# Altium integrated library Microchip PIC16 Part 1.IntLib: 1800 symbols (part 72 of 93)
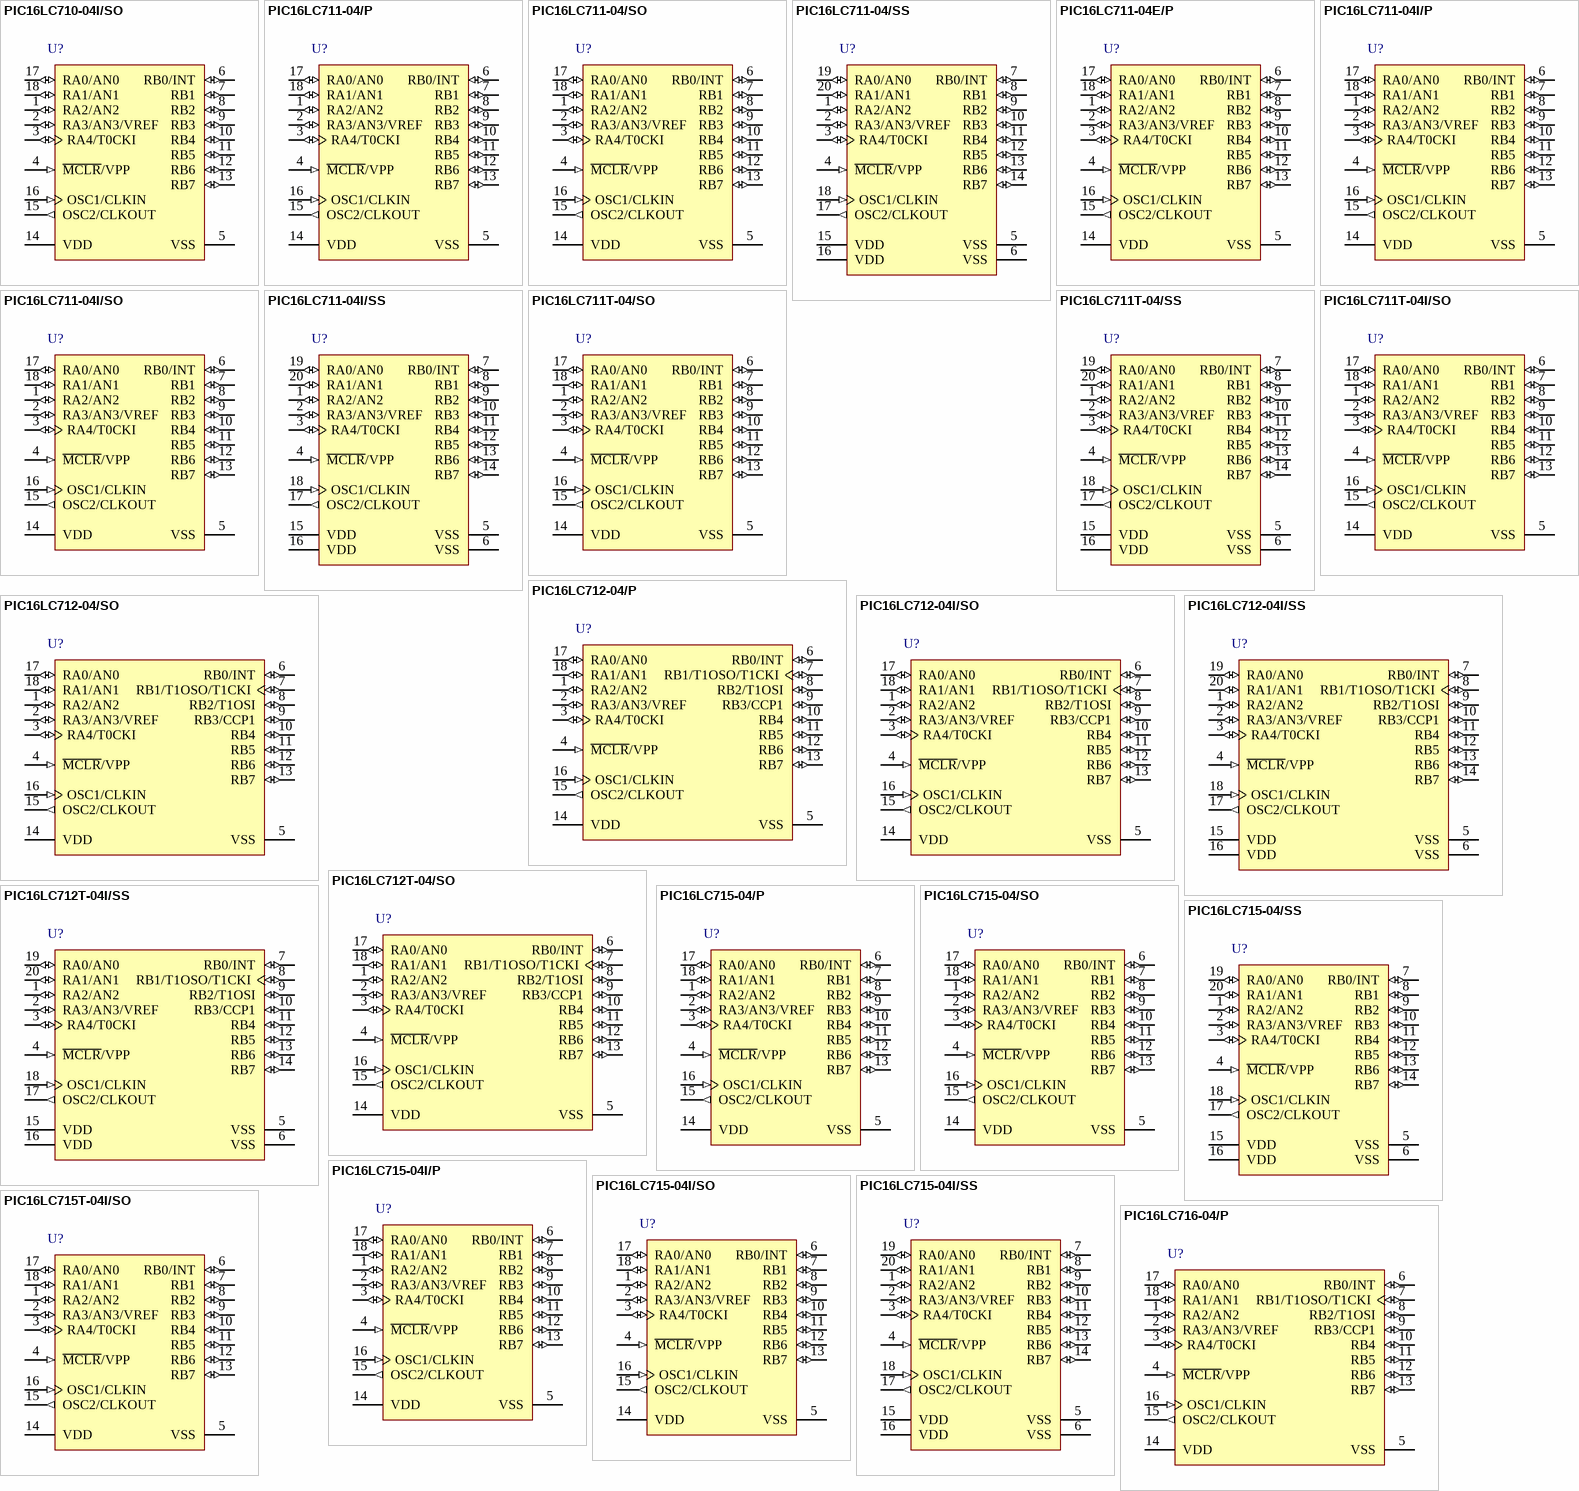
[diagram p170: symbols PIC16LC710-04I/SO to PIC16LC716-04/P]

## PIC16LC715-04I/SS
designator U?
8-Bit CMOS Microcontroller with A/D Converter, 4 MHz, 13 I/O, -40 to 85 degC, 20-pin SSOP (SS20), Tube; Manufacturer: Microchip; PartNumber: PIC16LC715-04I/SS; # of A/D Channels: 4; Digital Communication: 0 -UART, 0 -A/E/USART, 0 -SPI, 0 -I2C; I/O Pins: 13; Memory Type: OTP; Operation Voltage Range: 2.5V - 5.5V; Program Memory KBytes: 3.5; Program Memory KWords: 2; RAM: 128; Timers: 1 - 8-bit; DatasheetVersion: Rev. A; PackageVersion: C04-072B, 12/2012; PackageReference: SSOP-SS20; PackageDescription: 20-Lead Plastic Shrink Small Outline, 5.3 x 7.2 mm Body, 0.65 mm Pitch; Supplier 1: Digi-Key; Supplier Part Number 1: PIC16LC715-04I/SS-ND; Supplier 2: Mouser; Supplier Part Number 2: 579-16LC715-04I/SS; Max. CPU Speed MHz: 4; Packing: TUBE; Mounting Technology: Surface Mount; ComponentLink1Description: Datasheet; ComponentLink1URL: http://ww1.microchip.com/downloads/en/DeviceDoc/30272a.pdf; ComponentLink2Description: Package Specification; ComponentLink2URL: http://www.microchip.com/stellent/groups/techpub_sg/documents/packagingspec/en012702.pdf; ComponentLink3Description: URL Link1; ComponentLink3URL: Product URL:http://www.microchip.com/datasheet/PIC16C715
footprint MCHP-SSOP-SS20_N (SOP, 20-Leads, Body 7.2x5.3mm, Pitch 0.65mm, IPC Medium Density)
footprint MCHP-SSOP-SS20_L (SOP, 20-Leads, Body 7.2x5.3mm, Pitch 0.65mm, IPC High Density)
footprint MCHP-SSOP-SS20_M (SOP, 20-Leads, Body 7.2x5.3mm, Pitch 0.65mm, IPC Low Density)
pins: 1 RA2/AN2 (io), 2 RA3/AN3/VREF (io), 3 RA4/T0CKI (io), 4 ~{MCLR}/VPP (in), 5 VSS (power) "Ground reference for logic and I/O pins.", 6 VSS (power) "Ground reference for logic and I/O pins.", 7 RB0/INT (io), 8 RB1 (io) "PORTB is a bi-directional I/O port. PORTB can be software programmed for internal weak pull-up on all inputs.", 9 RB2 (io) "PORTB is a bi-directional I/O port. PORTB can be software programmed for internal weak pull-up on all inputs.", 10 RB3 (io) "PORTB is a bi-directional I/O port. PORTB can be software programmed for internal weak pull-up on all inputs.", 11 RB4 (io) "PORTB is a bi-directional I/O port. PORTB can be software programmed for internal weak pull-up on all inputs. Interrupt-on-change pin.", 12 RB5 (io) "PORTB is a bi-directional I/O port. PORTB can be software programmed for internal weak pull-up on all inputs. Interrupt-on-change pin.", 13 RB6 (io) "PORTB is a bi-directional I/O port. PORTB can be software programmed for internal weak pull-up on all inputs. Interrupt-on-change pin. Serial programming clock", 14 RB7 (io) "PORTB is a bi-directional I/O port. PORTB can be software programmed for internal weak pull-up on all inputs. Interrupt-on-change pin. Serial programming data", 15 VDD (power) "Positive supply for logic and I/O pins", 16 VDD (power) "Positive supply for logic and I/O pins", 17 OSC2/CLKOUT (out), 18 OSC1/CLKIN (in), 19 RA0/AN0 (io), 20 RA1/AN1 (io)

## PIC16LC715T-04I/SO
designator U?
8-Bit CMOS Microcontroller with A/D Converter, 4 MHz, 13 I/O, -40 to 85 degC, 18-pin SOIC (SO18), Tape and Reel; Manufacturer: Microchip; PartNumber: PIC16LC715T-04I/SO; # of A/D Channels: 4; Digital Communication: 0 -UART, 0 -A/E/USART, 0 -SPI, 0 -I2C; I/O Pins: 13; Memory Type: OTP; Operation Voltage Range: 2.5V - 5.5V; Packing: T/R; Program Memory KBytes: 3.5; Program Memory KWords: 2; RAM: 128; Timers: 1 - 8-bit; DatasheetVersion: Rev. A; PackageVersion: C04-051C, 12/2012; PackageReference: SOIC-SO18; PackageDescription: 18-Lead Plastic Small Outline, 7.5 x 11.55 mm Body, 1.27 mm Pitch; Supplier 1: Digi-Key; Supplier Part Number 1: PIC16LC715T-04ISO-ND; Supplier 2: Mouser; Supplier Part Number 2: 579-16LC715T-04I/SO; Max. CPU Speed MHz: 4; Mounting Technology: Surface Mount; ComponentLink1Description: Datasheet; ComponentLink1URL: http://ww1.microchip.com/downloads/en/DeviceDoc/30272a.pdf; ComponentLink2Description: Package Specification; ComponentLink2URL: http://www.microchip.com/stellent/groups/techpub_sg/documents/packagingspec/en012702.pdf; ComponentLink3Description: URL Link1; ComponentLink3URL: Product URL:http://www.microchip.com/datasheet/PIC16C715
footprint MCHP-SOIC-SO18_N (SOIC, 18-Leads, Body 11.55x7.5mm, Pitch 1.27mm, IPC Medium Density)
footprint MCHP-SOIC-SO18_L (SOIC, 18-Leads, Body 11.55x7.5mm, Pitch 1.27mm, IPC High Density)
footprint MCHP-SOIC-SO18_M (SOIC, 18-Leads, Body 11.55x7.5mm, Pitch 1.27mm, IPC Low Density)
pins: 1 RA2/AN2 (io), 2 RA3/AN3/VREF (io), 3 RA4/T0CKI (io), 4 ~{MCLR}/VPP (in), 5 VSS (power) "Ground reference for logic and I/O pins.", 6 RB0/INT (io), 7 RB1 (io) "PORTB is a bi-directional I/O port. PORTB can be software programmed for internal weak pull-up on all inputs.", 8 RB2 (io) "PORTB is a bi-directional I/O port. PORTB can be software programmed for internal weak pull-up on all inputs.", 9 RB3 (io) "PORTB is a bi-directional I/O port. PORTB can be software programmed for internal weak pull-up on all inputs.", 10 RB4 (io) "PORTB is a bi-directional I/O port. PORTB can be software programmed for internal weak pull-up on all inputs. Interrupt on change pin.", 11 RB5 (io) "PORTB is a bi-directional I/O port. PORTB can be software programmed for internal weak pull-up on all inputs. Interrupt on change pin.", 12 RB6 (io) "PORTB is a bi-directional I/O port. PORTB can be software programmed for internal weak pull-up on all inputs. Interrupt on change pin. Serial programming clock.", 13 RB7 (io) "PORTB is a bi-directional I/O port. PORTB can be software programmed for internal weak pull-up on all inputs. Interrupt on change pin. Serial programming data", 14 VDD (power) "Positive supply for logic and I/O pins.", 15 OSC2/CLKOUT (out), 16 OSC1/CLKIN (in), 17 RA0/AN0 (io), 18 RA1/AN1 (io)

## PIC16LC716-04/P
designator U?
8-Bit CMOS Microcontroller with A/D Converter and Capture / Compare / PWM, 4 MHz, 13 I/O, 0 to 70 degC, 18-pin PDIP (P18), Tube; Manufacturer: Microchip; PartNumber: PIC16LC716-04/P; # of A/D Channels: 4; Digital Communication: 0 -UART, 0 -A/E/USART, 0 -SPI, 0 -I2C; I/O Pins: 13; Memory Type: OTP; Operation Voltage Range: 2.5V - 5.5V; Program Memory KBytes: 3.5; Program Memory KWords: 2; RAM: 128; Timers: 2 - 8-bit, 1 - 16-bit; DatasheetVersion: Rev. C; PackageVersion: C04-007B, 12/2012; PackageReference: PDIP-P18; PackageDescription: 18-Lead Plastic Dual In-Line, Row Spacing 7.62 mm, 22.86 x 6.6 mm Body, 2.54 mm Pitch; Supplier 1: Digi-Key; Supplier Part Number 1: PIC16LC716-04/P-ND; Supplier 2: Mouser; Supplier Part Number 2: 579-PIC16LC716-04/P; Max. CPU Speed MHz: 4; Packing: TUBE; Mounting Technology: Through Hole; ComponentLink1Description: Datasheet; ComponentLink1URL: http://ww1.microchip.com/downloads/en/DeviceDoc/41106C.pdf; ComponentLink2Description: Package Specification; ComponentLink2URL: http://www.microchip.com/stellent/groups/techpub_sg/documents/packagingspec/en012702.pdf; ComponentLink3Description: URL Link1; ComponentLink3URL: Product URL:http://www.microchip.com/datasheet/PIC16C716
footprint MCHP-PDIP-P18 (DIP, 18-Leads, Body 22.83x6.604mm, Pitch 2.54mm)
pins: 1 RA2/AN2 (io), 2 RA3/AN3/VREF (io), 3 RA4/T0CKI (io), 4 ~{MCLR}/VPP (in), 5 VSS (power) "Ground reference for logic and I/O pins.", 6 RB0/INT (io), 7 RB1/T1OSO/T1CKI (io), 8 RB2/T1OSI (io), 9 RB3/CCP1 (io), 10 RB4 (io) "PORTB is a bidirectional I/O port. PORTB can be software programmed for internal weak pull-ups on all inputs. Digital I/O Interrupt on change pin.", 11 RB5 (io) "PORTB is a bidirectional I/O port. PORTB can be software programmed for internal weak pull-ups on all inputs. Digital I/O Interrupt on change pin.", 12 RB6 (io) "PORTB is a bidirectional I/O port. PORTB can be software programmed for internal weak pull-ups on all inputs. Digital I/O Interrupt on change pin. ICSP programming clock", 13 RB7 (io) "PORTB is a bidirectional I/O port. PORTB can be software programmed for internal weak pull-ups on all inputs. Digital I/O Interrupt on change pin. ICSP programming data", 14 VDD (power) "Positive supply for logic and I/O pins.", 15 OSC2/CLKOUT (out), 16 OSC1/CLKIN (in), 17 RA0/AN0 (io), 18 RA1/AN1 (io)

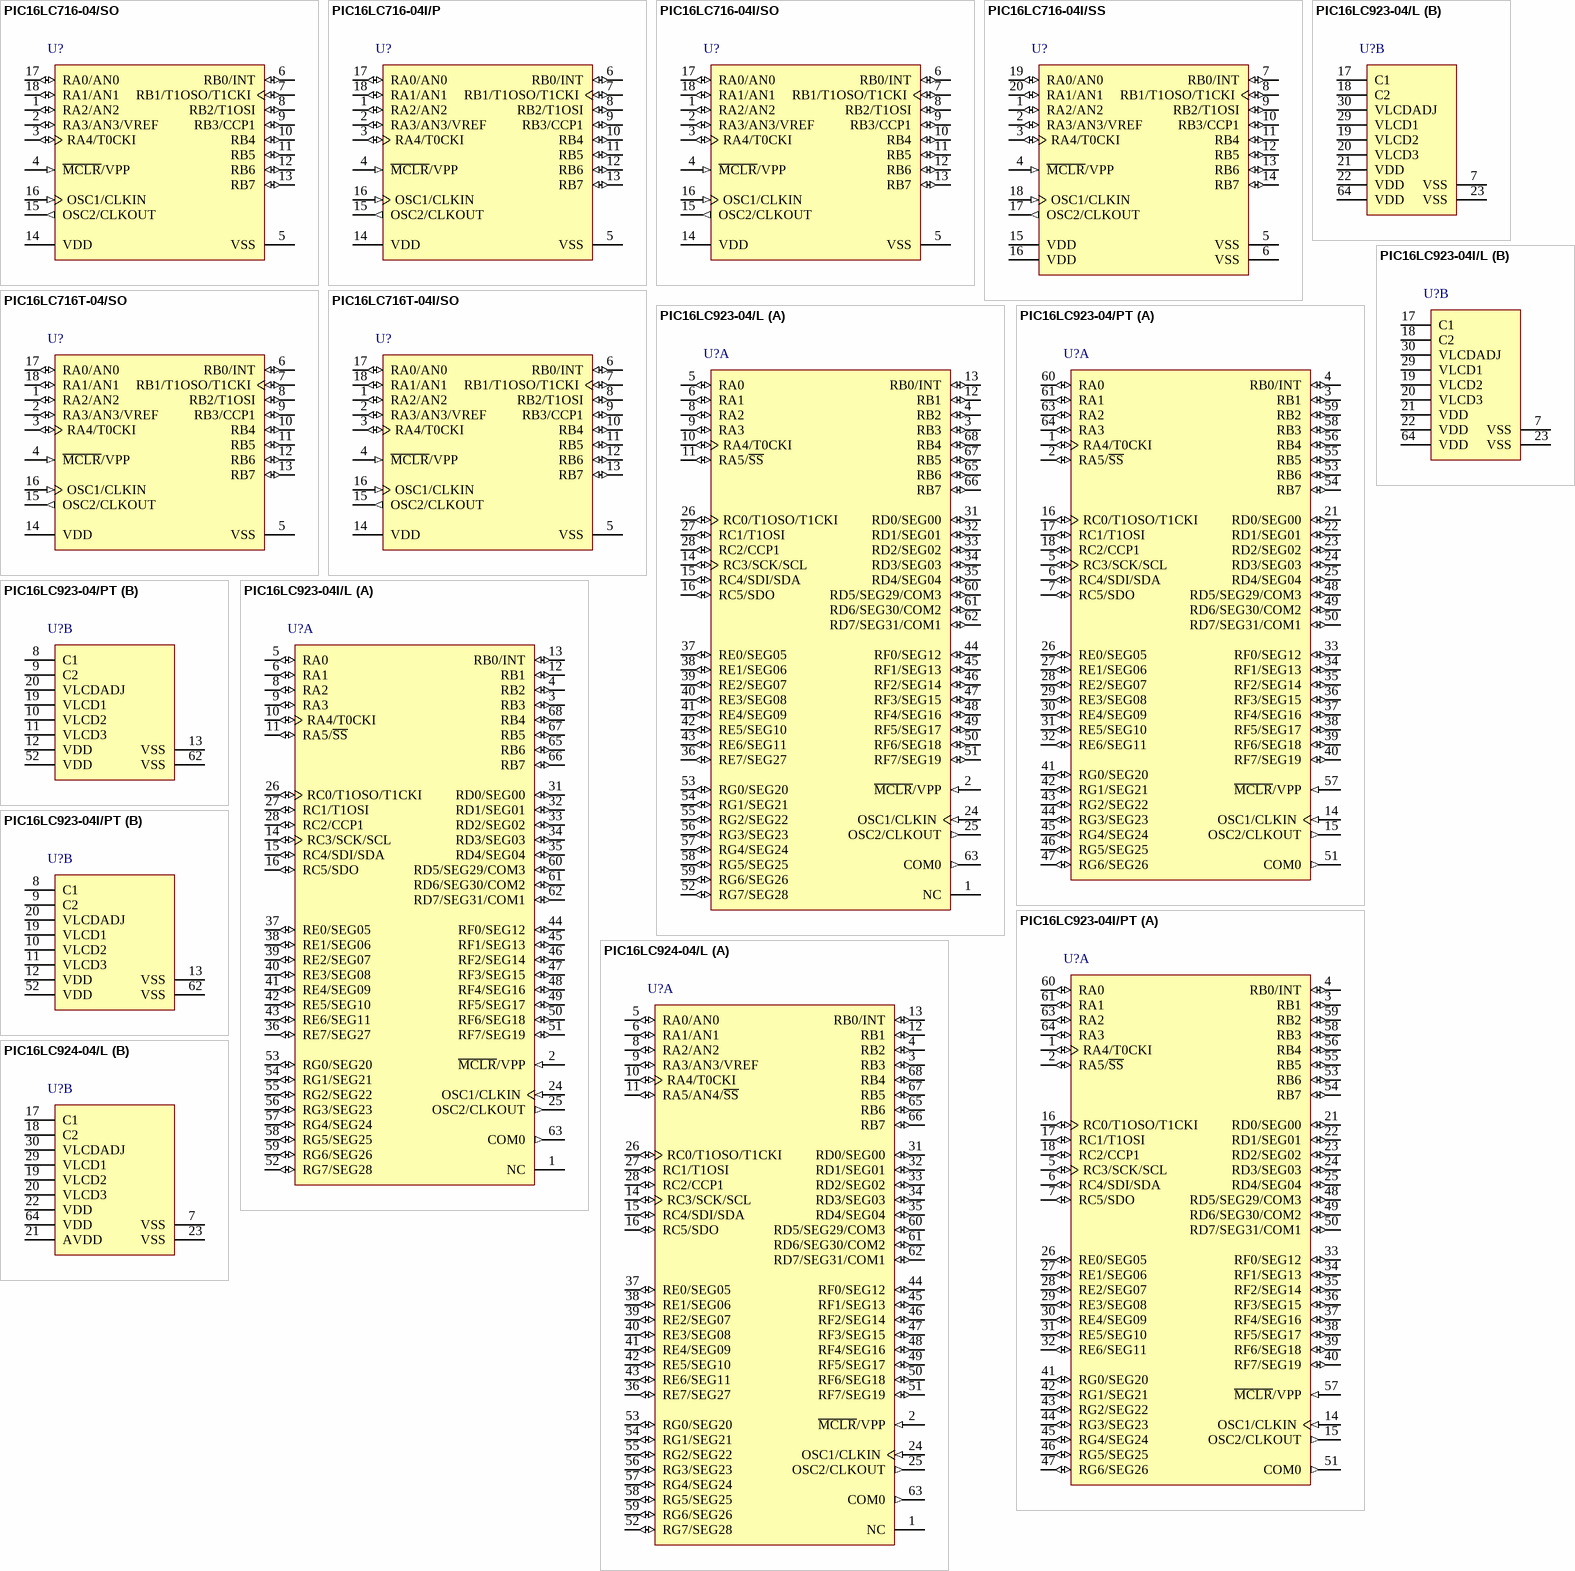
[diagram p73: symbols PIC16LC716-04/SO to PIC16LC924-04/L]

## PIC16LC716-04/SO
designator U?
8-Bit CMOS Microcontroller with A/D Converter and Capture / Compare / PWM, 4 MHz, 13 I/O, 0 to 70 degC, 18-pin SOIC (SO18), Tube; Manufacturer: Microchip; PartNumber: PIC16LC716-04/SO; # of A/D Channels: 4; Digital Communication: 0 -UART, 0 -A/E/USART, 0 -SPI, 0 -I2C; I/O Pins: 13; Memory Type: OTP; Operation Voltage Range: 2.5V - 5.5V; Program Memory KBytes: 3.5; Program Memory KWords: 2; RAM: 128; Timers: 2 - 8-bit, 1 - 16-bit; DatasheetVersion: Rev. C; PackageVersion: C04-051C, 12/2012; PackageReference: SOIC-SO18; PackageDescription: 18-Lead Plastic Small Outline, 7.5 x 11.55 mm Body, 1.27 mm Pitch; Supplier 1: Digi-Key; Supplier Part Number 1: PIC16LC716-04/SO-ND; Supplier 2: Mouser; Supplier Part Number 2: 579-PIC16LC716-04/SO; Max. CPU Speed MHz: 4; Packing: TUBE; Mounting Technology: Surface Mount; ComponentLink1Description: Datasheet; ComponentLink1URL: http://ww1.microchip.com/downloads/en/DeviceDoc/41106C.pdf; ComponentLink2Description: Package Specification; ComponentLink2URL: http://www.microchip.com/stellent/groups/techpub_sg/documents/packagingspec/en012702.pdf; ComponentLink3Description: URL Link1; ComponentLink3URL: Product URL:http://www.microchip.com/datasheet/PIC16C716
footprint MCHP-SOIC-SO18_N (SOIC, 18-Leads, Body 11.55x7.5mm, Pitch 1.27mm, IPC Medium Density)
footprint MCHP-SOIC-SO18_L (SOIC, 18-Leads, Body 11.55x7.5mm, Pitch 1.27mm, IPC High Density)
footprint MCHP-SOIC-SO18_M (SOIC, 18-Leads, Body 11.55x7.5mm, Pitch 1.27mm, IPC Low Density)
pins: 1 RA2/AN2 (io), 2 RA3/AN3/VREF (io), 3 RA4/T0CKI (io), 4 ~{MCLR}/VPP (in), 5 VSS (power) "Ground reference for logic and I/O pins.", 6 RB0/INT (io), 7 RB1/T1OSO/T1CKI (io), 8 RB2/T1OSI (io), 9 RB3/CCP1 (io), 10 RB4 (io) "PORTB is a bidirectional I/O port. PORTB can be software programmed for internal weak pull-ups on all inputs. Digital I/O Interrupt on change pin.", 11 RB5 (io) "PORTB is a bidirectional I/O port. PORTB can be software programmed for internal weak pull-ups on all inputs. Digital I/O Interrupt on change pin.", 12 RB6 (io) "PORTB is a bidirectional I/O port. PORTB can be software programmed for internal weak pull-ups on all inputs. Digital I/O Interrupt on change pin. ICSP programming clock", 13 RB7 (io) "PORTB is a bidirectional I/O port. PORTB can be software programmed for internal weak pull-ups on all inputs. Digital I/O Interrupt on change pin. ICSP programming data", 14 VDD (power) "Positive supply for logic and I/O pins.", 15 OSC2/CLKOUT (out), 16 OSC1/CLKIN (in), 17 RA0/AN0 (io), 18 RA1/AN1 (io)

## PIC16LC716-04I/P
designator U?
8-Bit CMOS Microcontroller with A/D Converter and Capture / Compare / PWM, 4 MHz, 13 I/O, -40 to 85 degC, 18-pin PDIP (P18), Tube; Manufacturer: Microchip; PartNumber: PIC16LC716-04I/P; # of A/D Channels: 4; Digital Communication: 0 -UART, 0 -A/E/USART, 0 -SPI, 0 -I2C; I/O Pins: 13; Memory Type: OTP; Operation Voltage Range: 2.5V - 5.5V; Program Memory KBytes: 3.5; Program Memory KWords: 2; RAM: 128; Timers: 2 - 8-bit, 1 - 16-bit; DatasheetVersion: Rev. C; PackageVersion: C04-007B, 12/2012; PackageReference: PDIP-P18; PackageDescription: 18-Lead Plastic Dual In-Line, Row Spacing 7.62 mm, 22.86 x 6.6 mm Body, 2.54 mm Pitch; Supplier 1: Digi-Key; Supplier Part Number 1: PIC16LC716-04I/P-ND; Supplier 2: Mouser; Supplier Part Number 2: 579-PIC16LC716-04I/P; Max. CPU Speed MHz: 4; Packing: TUBE; Mounting Technology: Through Hole; ComponentLink1Description: Datasheet; ComponentLink1URL: http://ww1.microchip.com/downloads/en/DeviceDoc/41106C.pdf; ComponentLink2Description: Package Specification; ComponentLink2URL: http://www.microchip.com/stellent/groups/techpub_sg/documents/packagingspec/en012702.pdf; ComponentLink3Description: URL Link1; ComponentLink3URL: Product URL:http://www.microchip.com/datasheet/PIC16C716
footprint MCHP-PDIP-P18 (DIP, 18-Leads, Body 22.83x6.604mm, Pitch 2.54mm)
pins: 1 RA2/AN2 (io), 2 RA3/AN3/VREF (io), 3 RA4/T0CKI (io), 4 ~{MCLR}/VPP (in), 5 VSS (power) "Ground reference for logic and I/O pins.", 6 RB0/INT (io), 7 RB1/T1OSO/T1CKI (io), 8 RB2/T1OSI (io), 9 RB3/CCP1 (io), 10 RB4 (io) "PORTB is a bidirectional I/O port. PORTB can be software programmed for internal weak pull-ups on all inputs. Digital I/O Interrupt on change pin.", 11 RB5 (io) "PORTB is a bidirectional I/O port. PORTB can be software programmed for internal weak pull-ups on all inputs. Digital I/O Interrupt on change pin.", 12 RB6 (io) "PORTB is a bidirectional I/O port. PORTB can be software programmed for internal weak pull-ups on all inputs. Digital I/O Interrupt on change pin. ICSP programming clock", 13 RB7 (io) "PORTB is a bidirectional I/O port. PORTB can be software programmed for internal weak pull-ups on all inputs. Digital I/O Interrupt on change pin. ICSP programming data", 14 VDD (power) "Positive supply for logic and I/O pins.", 15 OSC2/CLKOUT (out), 16 OSC1/CLKIN (in), 17 RA0/AN0 (io), 18 RA1/AN1 (io)

## PIC16LC716-04I/SO
designator U?
8-Bit CMOS Microcontroller with A/D Converter and Capture / Compare / PWM, 4 MHz, 13 I/O, -40 to 85 degC, 18-pin SOIC (SO18), Tube; Manufacturer: Microchip; PartNumber: PIC16LC716-04I/SO; # of A/D Channels: 4; Digital Communication: 0 -UART, 0 -A/E/USART, 0 -SPI, 0 -I2C; I/O Pins: 13; Memory Type: OTP; Operation Voltage Range: 2.5V - 5.5V; Program Memory KBytes: 3.5; Program Memory KWords: 2; RAM: 128; Timers: 2 - 8-bit, 1 - 16-bit; DatasheetVersion: Rev. C; PackageVersion: C04-051C, 12/2012; PackageReference: SOIC-SO18; PackageDescription: 18-Lead Plastic Small Outline, 7.5 x 11.55 mm Body, 1.27 mm Pitch; Supplier 1: Digi-Key; Supplier Part Number 1: PIC16LC716-04I/SO-ND; Supplier 2: Mouser; Supplier Part Number 2: 579-16LC716-04I/SO; Max. CPU Speed MHz: 4; Packing: TUBE; Mounting Technology: Surface Mount; ComponentLink1Description: Datasheet; ComponentLink1URL: http://ww1.microchip.com/downloads/en/DeviceDoc/41106C.pdf; ComponentLink2Description: Package Specification; ComponentLink2URL: http://www.microchip.com/stellent/groups/techpub_sg/documents/packagingspec/en012702.pdf; ComponentLink3Description: URL Link1; ComponentLink3URL: Product URL:http://www.microchip.com/datasheet/PIC16C716
footprint MCHP-SOIC-SO18_N (SOIC, 18-Leads, Body 11.55x7.5mm, Pitch 1.27mm, IPC Medium Density)
footprint MCHP-SOIC-SO18_L (SOIC, 18-Leads, Body 11.55x7.5mm, Pitch 1.27mm, IPC High Density)
footprint MCHP-SOIC-SO18_M (SOIC, 18-Leads, Body 11.55x7.5mm, Pitch 1.27mm, IPC Low Density)
pins: 1 RA2/AN2 (io), 2 RA3/AN3/VREF (io), 3 RA4/T0CKI (io), 4 ~{MCLR}/VPP (in), 5 VSS (power) "Ground reference for logic and I/O pins.", 6 RB0/INT (io), 7 RB1/T1OSO/T1CKI (io), 8 RB2/T1OSI (io), 9 RB3/CCP1 (io), 10 RB4 (io) "PORTB is a bidirectional I/O port. PORTB can be software programmed for internal weak pull-ups on all inputs. Digital I/O Interrupt on change pin.", 11 RB5 (io) "PORTB is a bidirectional I/O port. PORTB can be software programmed for internal weak pull-ups on all inputs. Digital I/O Interrupt on change pin.", 12 RB6 (io) "PORTB is a bidirectional I/O port. PORTB can be software programmed for internal weak pull-ups on all inputs. Digital I/O Interrupt on change pin. ICSP programming clock", 13 RB7 (io) "PORTB is a bidirectional I/O port. PORTB can be software programmed for internal weak pull-ups on all inputs. Digital I/O Interrupt on change pin. ICSP programming data", 14 VDD (power) "Positive supply for logic and I/O pins.", 15 OSC2/CLKOUT (out), 16 OSC1/CLKIN (in), 17 RA0/AN0 (io), 18 RA1/AN1 (io)

## PIC16LC716-04I/SS
designator U?
8-Bit CMOS Microcontroller with A/D Converter and Capture / Compare / PWM, 4 MHz, 13 I/O, -40 to 85 degC, 20-pin SSOP (SS20), Tube; Manufacturer: Microchip; PartNumber: PIC16LC716-04I/SS; # of A/D Channels: 4; Digital Communication: 0 -UART, 0 -A/E/USART, 0 -SPI, 0 -I2C; I/O Pins: 13; Memory Type: OTP; Operation Voltage Range: 2.5V - 5.5V; Program Memory KBytes: 3.5; Program Memory KWords: 2; RAM: 128; Timers: 2 - 8-bit, 1 - 16-bit; DatasheetVersion: Rev. C; PackageVersion: C04-072B, 12/2012; PackageReference: SSOP-SS20; PackageDescription: 20-Lead Plastic Shrink Small Outline, 5.3 x 7.2 mm Body, 0.65 mm Pitch; Supplier 1: Digi-Key; Supplier Part Number 1: PIC16LC716-04I/SS-ND; Supplier 2: Mouser; Supplier Part Number 2: 579-16LC716-04I/SS; Max. CPU Speed MHz: 4; Packing: TUBE; Mounting Technology: Surface Mount; ComponentLink1Description: Datasheet; ComponentLink1URL: http://ww1.microchip.com/downloads/en/DeviceDoc/41106C.pdf; ComponentLink2Description: Package Specification; ComponentLink2URL: http://www.microchip.com/stellent/groups/techpub_sg/documents/packagingspec/en012702.pdf; ComponentLink3Description: URL Link1; ComponentLink3URL: Product URL:http://www.microchip.com/datasheet/PIC16C716
footprint MCHP-SSOP-SS20_N (SOP, 20-Leads, Body 7.2x5.3mm, Pitch 0.65mm, IPC Medium Density)
footprint MCHP-SSOP-SS20_L (SOP, 20-Leads, Body 7.2x5.3mm, Pitch 0.65mm, IPC High Density)
footprint MCHP-SSOP-SS20_M (SOP, 20-Leads, Body 7.2x5.3mm, Pitch 0.65mm, IPC Low Density)
pins: 1 RA2/AN2 (io), 2 RA3/AN3/VREF (io), 3 RA4/T0CKI (io), 4 ~{MCLR}/VPP (in), 5 VSS (power) "Ground reference for logic and I/O pins.", 6 VSS (power) "Ground reference for logic and I/O pins.", 7 RB0/INT (io), 8 RB1/T1OSO/T1CKI (io), 9 RB2/T1OSI (io), 10 RB3/CCP1 (io), 11 RB4 (io) "PORTB is a bidirectional I/O port. PORTB can be software programmed for internal weak pull-ups on all inputs. Digital I/O Interrupt on change pin.", 12 RB5 (io) "PORTB is a bidirectional I/O port. PORTB can be software programmed for internal weak pull-ups on all inputs. Digital I/O Interrupt on change pin", 13 RB6 (io) "PORTB is a bidirectional I/O port. PORTB can be software programmed for internal weak pull-ups on all inputs. Digital I/O Interrupt on change pin. ICSP programming clock.", 14 RB7 (io) "PORTB is a bidirectional I/O port. PORTB can be software programmed for internal weak pull-ups on all inputs. Digital I/O Interrupt on change pin. ICSP programming data.", 15 VDD (power) "Positive supply for logic and I/O pins.", 16 VDD (power) "Positive supply for logic and I/O pins.", 17 OSC2/CLKOUT (out), 18 OSC1/CLKIN (in), 19 RA0/AN0 (io), 20 RA1/AN1 (io)

## PIC16LC716T-04/SO
designator U?
8-Bit CMOS Microcontroller with A/D Converter and Capture / Compare / PWM, 4 MHz, 13 I/O, 0 to 70 degC, 18-pin SOIC (SO18), Tape and Reel; Manufacturer: Microchip; PartNumber: PIC16LC716T-04/SO; # of A/D Channels: 4; Digital Communication: 0 -UART, 0 -A/E/USART, 0 -SPI, 0 -I2C; I/O Pins: 13; Memory Type: OTP; Operation Voltage Range: 2.5V - 5.5V; Packing: T/R; Program Memory KBytes: 3.5; Program Memory KWords: 2; RAM: 128; Timers: 2 - 8-bit, 1 - 16-bit; DatasheetVersion: Rev. C; PackageVersion: C04-051C, 12/2012; PackageReference: SOIC-SO18; PackageDescription: 18-Lead Plastic Small Outline, 7.5 x 11.55 mm Body, 1.27 mm Pitch; Supplier 1: Digi-Key; Supplier Part Number 1: PIC16LC716T-04/SO-ND; Supplier 2: Mouser; Supplier Part Number 2: 579-16LC716T-04/SO; Max. CPU Speed MHz: 4; Mounting Technology: Surface Mount; ComponentLink1Description: Datasheet; ComponentLink1URL: http://ww1.microchip.com/downloads/en/DeviceDoc/41106C.pdf; ComponentLink2Description: Package Specification; ComponentLink2URL: http://www.microchip.com/stellent/groups/techpub_sg/documents/packagingspec/en012702.pdf; ComponentLink3Description: URL Link1; ComponentLink3URL: Product URL:http://www.microchip.com/datasheet/PIC16C716
footprint MCHP-SOIC-SO18_N (SOIC, 18-Leads, Body 11.55x7.5mm, Pitch 1.27mm, IPC Medium Density)
footprint MCHP-SOIC-SO18_L (SOIC, 18-Leads, Body 11.55x7.5mm, Pitch 1.27mm, IPC High Density)
footprint MCHP-SOIC-SO18_M (SOIC, 18-Leads, Body 11.55x7.5mm, Pitch 1.27mm, IPC Low Density)
pins: 1 RA2/AN2 (io), 2 RA3/AN3/VREF (io), 3 RA4/T0CKI (io), 4 ~{MCLR}/VPP (in), 5 VSS (power) "Ground reference for logic and I/O pins.", 6 RB0/INT (io), 7 RB1/T1OSO/T1CKI (io), 8 RB2/T1OSI (io), 9 RB3/CCP1 (io), 10 RB4 (io) "PORTB is a bidirectional I/O port. PORTB can be software programmed for internal weak pull-ups on all inputs. Digital I/O Interrupt on change pin.", 11 RB5 (io) "PORTB is a bidirectional I/O port. PORTB can be software programmed for internal weak pull-ups on all inputs. Digital I/O Interrupt on change pin.", 12 RB6 (io) "PORTB is a bidirectional I/O port. PORTB can be software programmed for internal weak pull-ups on all inputs. Digital I/O Interrupt on change pin. ICSP programming clock", 13 RB7 (io) "PORTB is a bidirectional I/O port. PORTB can be software programmed for internal weak pull-ups on all inputs. Digital I/O Interrupt on change pin. ICSP programming data", 14 VDD (power) "Positive supply for logic and I/O pins.", 15 OSC2/CLKOUT (out), 16 OSC1/CLKIN (in), 17 RA0/AN0 (io), 18 RA1/AN1 (io)

## PIC16LC716T-04I/SO
designator U?
8-Bit CMOS Microcontroller with A/D Converter and Capture / Compare / PWM, 4 MHz, 13 I/O, -40 to 85 degC, 18-pin SOIC (SO18), Tape and Reel; Manufacturer: Microchip; PartNumber: PIC16LC716T-04I/SO; # of A/D Channels: 4; Digital Communication: 0 -UART, 0 -A/E/USART, 0 -SPI, 0 -I2C; I/O Pins: 13; Memory Type: OTP; Operation Voltage Range: 2.5V - 5.5V; Packing: T/R; Program Memory KBytes: 3.5; Program Memory KWords: 2; RAM: 128; Timers: 2 - 8-bit, 1 - 16-bit; DatasheetVersion: Rev. C; PackageVersion: C04-051C, 12/2012; PackageReference: SOIC-SO18; PackageDescription: 18-Lead Plastic Small Outline, 7.5 x 11.55 mm Body, 1.27 mm Pitch; Supplier 1: Digi-Key; Supplier Part Number 1: PIC16LC716T-04ISO-ND; Supplier 2: Mouser; Supplier Part Number 2: 579-16LC716T-04I/SO; Max. CPU Speed MHz: 4; Mounting Technology: Surface Mount; ComponentLink1Description: Datasheet; ComponentLink1URL: http://ww1.microchip.com/downloads/en/DeviceDoc/41106C.pdf; ComponentLink2Description: Package Specification; ComponentLink2URL: http://www.microchip.com/stellent/groups/techpub_sg/documents/packagingspec/en012702.pdf; ComponentLink3Description: URL Link1; ComponentLink3URL: Product URL:http://www.microchip.com/datasheet/PIC16C716
footprint MCHP-SOIC-SO18_N (SOIC, 18-Leads, Body 11.55x7.5mm, Pitch 1.27mm, IPC Medium Density)
footprint MCHP-SOIC-SO18_L (SOIC, 18-Leads, Body 11.55x7.5mm, Pitch 1.27mm, IPC High Density)
footprint MCHP-SOIC-SO18_M (SOIC, 18-Leads, Body 11.55x7.5mm, Pitch 1.27mm, IPC Low Density)
pins: 1 RA2/AN2 (io), 2 RA3/AN3/VREF (io), 3 RA4/T0CKI (io), 4 ~{MCLR}/VPP (in), 5 VSS (power) "Ground reference for logic and I/O pins.", 6 RB0/INT (io), 7 RB1/T1OSO/T1CKI (io), 8 RB2/T1OSI (io), 9 RB3/CCP1 (io), 10 RB4 (io) "PORTB is a bidirectional I/O port. PORTB can be software programmed for internal weak pull-ups on all inputs. Digital I/O Interrupt on change pin.", 11 RB5 (io) "PORTB is a bidirectional I/O port. PORTB can be software programmed for internal weak pull-ups on all inputs. Digital I/O Interrupt on change pin.", 12 RB6 (io) "PORTB is a bidirectional I/O port. PORTB can be software programmed for internal weak pull-ups on all inputs. Digital I/O Interrupt on change pin. ICSP programming clock", 13 RB7 (io) "PORTB is a bidirectional I/O port. PORTB can be software programmed for internal weak pull-ups on all inputs. Digital I/O Interrupt on change pin. ICSP programming data", 14 VDD (power) "Positive supply for logic and I/O pins.", 15 OSC2/CLKOUT (out), 16 OSC1/CLKIN (in), 17 RA0/AN0 (io), 18 RA1/AN1 (io)

## PIC16LC923-04/L
designator U?
8-Bit CMOS Microcontroller with LCD Driver, 4 MHz, 25 I/O, 0 to 70 degC, 68-pin PLCC (L68), Tube; Manufacturer: Microchip; PartNumber: PIC16LC923-04/L; I/O Pins: 25; Max. CPU Speed MHz: 4; Memory Type: OTP; Operation Voltage Range: 2.5V - 6V; Program Memory KBytes: 7; RAM: 176; Timers: 2 - 8-bit, 1 - 16-bit; DatasheetVersion: Rev. E; PackageVersion: C04-049B, 04/2013; PackageReference: PLCC-L68; PackageDescription: 68-Lead Plastic Leaded Chip Carrier, Body 24.23 x 24.23 mm, Pitch 1.27 mm; Supplier 1: Digi-Key; Supplier Part Number 1: PIC16LC923-04/L-ND; Supplier 2: Mouser; Supplier Part Number 2: 579-PIC16LC923-04/L; Packing: TUBE; Program Memory KWords: 4; Mounting Technology: Surface Mount; ComponentLink1Description: Datasheet; ComponentLink1URL: http://ww1.microchip.com/downloads/en/DeviceDoc/30444e.pdf; ComponentLink2Description: Package Specification; ComponentLink2URL: http://www.microchip.com/stellent/groups/techpub_sg/documents/packagingspec/en012702.pdf; ComponentLink3Description: URL Link1; ComponentLink3URL: Product URL:http://www.microchip.com/datasheet/PIC16C923
footprint MCHP-PLCC-L68_N (PLCC, 68-Leads, Body 24.23x24.23mm, Pitch 1.27mm, IPC Medium Density)
footprint MCHP-PLCC-L68_L (PLCC, 68-Leads, Body 24.23x24.23mm, Pitch 1.27mm, IPC High Density)
footprint MCHP-PLCC-L68_M (PLCC, 68-Leads, Body 24.23x24.23mm, Pitch 1.27mm, IPC Low Density)
part A pins: 1 NC "These pins are not internally connected. These pins should be left unconnected.", 2 ~{MCLR}/VPP (in), 3 RB3 (io) "PORTB is a bi-directional I/O port. PORTB can be software programmed for internal weak pull-ups on all inputs.", 4 RB2 (io) "PORTB is a bi-directional I/O port. PORTB can be software programmed for internal weak pull-ups on all inputs.", 5 RA0 (io), 6 RA1 (io), 8 RA2 (io), 9 RA3 (io), 10 RA4/T0CKI (io), 11 RA5/~{SS} (io), 12 RB1 (io) "PORTB is a bi-directional I/O port. PORTB can be software programmed for internal weak pull-ups on all inputs.", 13 RB0/INT (io), 14 RC3/SCK/SCL (io), 15 RC4/SDI/SDA (io), 16 RC5/SDO (io), 24 OSC1/CLKIN (in), 25 OSC2/CLKOUT (out), 26 RC0/T1OSO/T1CKI (io), 27 RC1/T1OSI (io), 28 RC2/CCP1 (io), 31 RD0/SEG00 (io), 32 RD1/SEG01 (io), 33 RD2/SEG02 (io), 34 RD3/SEG03 (io), 35 RD4/SEG04 (io), 36 RE7/SEG27 (io), 37 RE0/SEG05 (io), 38 RE1/SEG06 (io), 39 RE2/SEG07 (io), 40 RE3/SEG08 (io), 41 RE4/SEG09 (io), 42 RE5/SEG10 (io), 43 RE6/SEG11 (io), 44 RF0/SEG12 (io), 45 RF1/SEG13 (io), 46 RF2/SEG14 (io), 47 RF3/SEG15 (io), 48 RF4/SEG16 (io), 49 RF5/SEG17 (io), 50 RF6/SEG18 (io), 51 RF7/SEG19 (io), 52 RG7/SEG28 (io), 53 RG0/SEG20 (io), 54 RG1/SEG21 (io), 55 RG2/SEG22 (io), 56 RG3/SEG23 (io), 57 RG4/SEG24 (io), 58 RG5/SEG25 (io), 59 RG6/SEG26 (io), 60 RD5/SEG29/COM3 (io), 61 RD6/SEG30/COM2 (io), 62 RD7/SEG31/COM1 (io), 63 COM0 (out) "Common Driver0", 65 RB6 (io) "PORTB is a bi-directional I/O port. PORTB can be software programmed for internal weak pull-ups on all inputs. Interrupt on change pin. Serial programming clock. This buffer is a Schmitt Trigger input when used in serial (See Datasheet)", 66 RB7 (io) "PORTB is a bi-directional I/O port. PORTB can be software programmed for internal weak pull-ups on all inputs. Interrupt on change pin. Serial programming data. This buffer is a Schmitt Trigger input when used in serial (See Datasheet)", 67 RB5 (io) "PORTB is a bi-directional I/O port. PORTB can be software programmed for internal weak pull-ups on all inputs. Interrupt on change pin", 68 RB4 (io) "PORTB is a bi-directional I/O port. PORTB can be software programmed for internal weak pull-ups on all inputs. Interrupt on change pin"
part B pins: 7 VSS (power) "Ground reference.", 17 C1 (power) "LCD Voltage Generation.", 18 C2 (power) "LCD Voltage Generation.", 19 VLCD2 (power) "LCD Voltage.", 20 VLCD3 (power) "LCD Voltage.", 21 VDD (power) "Digital power", 22 VDD (power) "Digital power", 23 VSS (power) "Ground reference.", 29 VLCD1 (power) "LCD Voltage.", 30 VLCDADJ (power) "LCD Voltage Generation", 64 VDD (power) "Digital power"

## PIC16LC923-04/PT
designator U?
8-Bit CMOS Microcontroller with LCD Driver, 4 MHz, 25 I/O, 0 to 70 degC, 64-pin TQFP (PT64), Tray; Manufacturer: Microchip; PartNumber: PIC16LC923-04/PT; I/O Pins: 25; Max. CPU Speed MHz: 4; Memory Type: OTP; Operation Voltage Range: 2.5V - 6V; Program Memory KBytes: 7; RAM: 176; Timers: 2 - 8-bit, 1 - 16-bit; DatasheetVersion: Rev. E; PackageVersion: C04-085B, 12/2012; PackageReference: TQFP-PT64; PackageDescription: 64-Lead Plastic Thin Quad FlatPack, 10 x 10 mm Body, 0.5 mm Pitch; Supplier 1: Digi-Key; Supplier Part Number 1: PIC16LC923-04/PT-ND; Supplier 2: Mouser; Supplier Part Number 2: 579-PIC16LC923-04/PT; Packing: TRAY; Program Memory KWords: 4; Mounting Technology: Surface Mount; ComponentLink1Description: Datasheet; ComponentLink1URL: http://ww1.microchip.com/downloads/en/DeviceDoc/30444e.pdf; ComponentLink2Description: Package Specification; ComponentLink2URL: http://www.microchip.com/stellent/groups/techpub_sg/documents/packagingspec/en012702.pdf; ComponentLink3Description: URL Link1; ComponentLink3URL: Product URL:http://www.microchip.com/datasheet/PIC16C923
footprint MCHP-TQFP-PT64_N (TQFP, 64-Leads, Body 10x10mm, Pitch 0.5mm, IPC Medium Density)
footprint MCHP-TQFP-PT64_L (TQFP, 64-Leads, Body 10x10mm, Pitch 0.5mm, IPC High Density)
footprint MCHP-TQFP-PT64_M (TQFP, 64-Leads, Body 10x10mm, Pitch 0.5mm, IPC Low Density)
part A pins: 1 RA4/T0CKI (io), 2 RA5/~{SS} (io), 3 RB1 (io) "PORTB is a bi-directional I/O port. PORTB can be software programmed for internal weak pull-ups on all inputs.", 4 RB0/INT (io), 5 RC3/SCK/SCL (io), 6 RC4/SDI/SDA (io), 7 RC5/SDO (io), 14 OSC1/CLKIN (in), 15 OSC2/CLKOUT (out), 16 RC0/T1OSO/T1CKI (io), 17 RC1/T1OSI (io), 18 RC2/CCP1 (io), 21 RD0/SEG00 (io), 22 RD1/SEG01 (io), 23 RD2/SEG02 (io), 24 RD3/SEG03 (io), 25 RD4/SEG04 (io), 26 RE0/SEG05 (io), 27 RE1/SEG06 (io), 28 RE2/SEG07 (io), 29 RE3/SEG08 (io), 30 RE4/SEG09 (io), 31 RE5/SEG10 (io), 32 RE6/SEG11 (io), 33 RF0/SEG12 (io), 34 RF1/SEG13 (io), 35 RF2/SEG14 (io), 36 RF3/SEG15 (io), 37 RF4/SEG16 (io), 38 RF5/SEG17 (io), 39 RF6/SEG18 (io), 40 RF7/SEG19 (io), 41 RG0/SEG20 (io), 42 RG1/SEG21 (io), 43 RG2/SEG22 (io), 44 RG3/SEG23 (io), 45 RG4/SEG24 (io), 46 RG5/SEG25 (io), 47 RG6/SEG26 (io), 48 RD5/SEG29/COM3 (io), 49 RD6/SEG30/COM2 (io), 50 RD7/SEG31/COM1 (io), 51 COM0 (out) "Common Driver0", 53 RB6 (io) "PORTB is a bi-directional I/O port. PORTB can be software programmed for internal weak pull-ups on all inputs. Interrupt on change pin. Serial programming clock. This buffer is a Schmitt Trigger input when used in serial (See Datasheet)", 54 RB7 (io) "PORTB is a bi-directional I/O port. PORTB can be software programmed for internal weak pull-ups on all inputs. Interrupt on change pin. Serial programming data. This buffer is a Schmitt Trigger input when used in serial (See Datasheet)", 55 RB5 (io) "PORTB is a bi-directional I/O port. PORTB can be software programmed for internal weak pull-ups on all inputs. Interrupt on change pin", 56 RB4 (io) "PORTB is a bi-directional I/O port. PORTB can be software programmed for internal weak pull-ups on all inputs. Interrupt on change pin", 57 ~{MCLR}/VPP (in), 58 RB3 (io) "PORTB is a bi-directional I/O port. PORTB can be software programmed for internal weak pull-ups on all inputs.", 59 RB2 (io) "PORTB is a bi-directional I/O port. PORTB can be software programmed for internal weak pull-ups on all inputs.", 60 RA0 (io), 61 RA1 (io), 63 RA2 (io), 64 RA3 (io)
part B pins: 8 C1 (power) "LCD Voltage Generation.", 9 C2 (power) "LCD Voltage Generation.", 10 VLCD2 (power) "LCD Voltage.", 11 VLCD3 (power) "LCD Voltage.", 12 VDD (power) "Digital power", 13 VSS (power) "Ground reference.", 19 VLCD1 (power) "LCD Voltage.", 20 VLCDADJ (power) "LCD Voltage Generation", 52 VDD (power) "Digital power", 62 VSS (power) "Ground reference."

## PIC16LC923-04I/L
designator U?
8-Bit CMOS Microcontroller with LCD Driver, 4 MHz, 25 I/O, -40 to 85 degC, 68-pin PLCC (L68), Tube; Manufacturer: Microchip; PartNumber: PIC16LC923-04I/L; I/O Pins: 25; Max. CPU Speed MHz: 4; Memory Type: OTP; Operation Voltage Range: 2.5V - 6V; Program Memory KBytes: 7; RAM: 176; Timers: 2 - 8-bit, 1 - 16-bit; DatasheetVersion: Rev. E; PackageVersion: C04-049B, 04/2013; PackageReference: PLCC-L68; PackageDescription: 68-Lead Plastic Leaded Chip Carrier, Body 24.23 x 24.23 mm, Pitch 1.27 mm; Supplier 1: Digi-Key; Supplier Part Number 1: PIC16LC923-04I/L-ND; Supplier 2: Mouser; Supplier Part Number 2: 579-PIC16LC923-04I/L; Packing: TUBE; Program Memory KWords: 4; Mounting Technology: Surface Mount; ComponentLink1Description: Datasheet; ComponentLink1URL: http://ww1.microchip.com/downloads/en/DeviceDoc/30444e.pdf; ComponentLink2Description: Package Specification; ComponentLink2URL: http://www.microchip.com/stellent/groups/techpub_sg/documents/packagingspec/en012702.pdf; ComponentLink3Description: URL Link1; ComponentLink3URL: Product URL:http://www.microchip.com/datasheet/PIC16C923
footprint MCHP-PLCC-L68_N (PLCC, 68-Leads, Body 24.23x24.23mm, Pitch 1.27mm, IPC Medium Density)
footprint MCHP-PLCC-L68_L (PLCC, 68-Leads, Body 24.23x24.23mm, Pitch 1.27mm, IPC High Density)
footprint MCHP-PLCC-L68_M (PLCC, 68-Leads, Body 24.23x24.23mm, Pitch 1.27mm, IPC Low Density)
part A pins: 1 NC "These pins are not internally connected. These pins should be left unconnected.", 2 ~{MCLR}/VPP (in), 3 RB3 (io) "PORTB is a bi-directional I/O port. PORTB can be software programmed for internal weak pull-ups on all inputs.", 4 RB2 (io) "PORTB is a bi-directional I/O port. PORTB can be software programmed for internal weak pull-ups on all inputs.", 5 RA0 (io), 6 RA1 (io), 8 RA2 (io), 9 RA3 (io), 10 RA4/T0CKI (io), 11 RA5/~{SS} (io), 12 RB1 (io) "PORTB is a bi-directional I/O port. PORTB can be software programmed for internal weak pull-ups on all inputs.", 13 RB0/INT (io), 14 RC3/SCK/SCL (io), 15 RC4/SDI/SDA (io), 16 RC5/SDO (io), 24 OSC1/CLKIN (in), 25 OSC2/CLKOUT (out), 26 RC0/T1OSO/T1CKI (io), 27 RC1/T1OSI (io), 28 RC2/CCP1 (io), 31 RD0/SEG00 (io), 32 RD1/SEG01 (io), 33 RD2/SEG02 (io), 34 RD3/SEG03 (io), 35 RD4/SEG04 (io), 36 RE7/SEG27 (io), 37 RE0/SEG05 (io), 38 RE1/SEG06 (io), 39 RE2/SEG07 (io), 40 RE3/SEG08 (io), 41 RE4/SEG09 (io), 42 RE5/SEG10 (io), 43 RE6/SEG11 (io), 44 RF0/SEG12 (io), 45 RF1/SEG13 (io), 46 RF2/SEG14 (io), 47 RF3/SEG15 (io), 48 RF4/SEG16 (io), 49 RF5/SEG17 (io), 50 RF6/SEG18 (io), 51 RF7/SEG19 (io), 52 RG7/SEG28 (io), 53 RG0/SEG20 (io), 54 RG1/SEG21 (io), 55 RG2/SEG22 (io), 56 RG3/SEG23 (io), 57 RG4/SEG24 (io), 58 RG5/SEG25 (io), 59 RG6/SEG26 (io), 60 RD5/SEG29/COM3 (io), 61 RD6/SEG30/COM2 (io), 62 RD7/SEG31/COM1 (io), 63 COM0 (out) "Common Driver0", 65 RB6 (io) "PORTB is a bi-directional I/O port. PORTB can be software programmed for internal weak pull-ups on all inputs. Interrupt on change pin. Serial programming clock. This buffer is a Schmitt Trigger input when used in serial (See Datasheet)", 66 RB7 (io) "PORTB is a bi-directional I/O port. PORTB can be software programmed for internal weak pull-ups on all inputs. Interrupt on change pin. Serial programming data. This buffer is a Schmitt Trigger input when used in serial (See Datasheet)", 67 RB5 (io) "PORTB is a bi-directional I/O port. PORTB can be software programmed for internal weak pull-ups on all inputs. Interrupt on change pin", 68 RB4 (io) "PORTB is a bi-directional I/O port. PORTB can be software programmed for internal weak pull-ups on all inputs. Interrupt on change pin"
part B pins: 7 VSS (power) "Ground reference.", 17 C1 (power) "LCD Voltage Generation.", 18 C2 (power) "LCD Voltage Generation.", 19 VLCD2 (power) "LCD Voltage.", 20 VLCD3 (power) "LCD Voltage.", 21 VDD (power) "Digital power", 22 VDD (power) "Digital power", 23 VSS (power) "Ground reference.", 29 VLCD1 (power) "LCD Voltage.", 30 VLCDADJ (power) "LCD Voltage Generation", 64 VDD (power) "Digital power"

## PIC16LC923-04I/PT
designator U?
8-Bit CMOS Microcontroller with LCD Driver, 4 MHz, 25 I/O, -40 to 85 degC, 64-pin TQFP (PT64), Tray; Manufacturer: Microchip; PartNumber: PIC16LC923-04I/PT; I/O Pins: 25; Max. CPU Speed MHz: 4; Memory Type: OTP; Operation Voltage Range: 2.5V - 6V; Program Memory KBytes: 7; RAM: 176; Timers: 2 - 8-bit, 1 - 16-bit; DatasheetVersion: Rev. E; PackageVersion: C04-085B, 12/2012; PackageReference: TQFP-PT64; PackageDescription: 64-Lead Plastic Thin Quad FlatPack, 10 x 10 mm Body, 0.5 mm Pitch; Supplier 1: Digi-Key; Supplier Part Number 1: PIC16LC923-04I/PT-ND; Supplier 2: Mouser; Supplier Part Number 2: 579-16LC923-04I/PT; Packing: TRAY; Program Memory KWords: 4; Mounting Technology: Surface Mount; ComponentLink1Description: Datasheet; ComponentLink1URL: http://ww1.microchip.com/downloads/en/DeviceDoc/30444e.pdf; ComponentLink2Description: Package Specification; ComponentLink2URL: http://www.microchip.com/stellent/groups/techpub_sg/documents/packagingspec/en012702.pdf; ComponentLink3Description: URL Link1; ComponentLink3URL: Product URL:http://www.microchip.com/datasheet/PIC16C923
footprint MCHP-TQFP-PT64_N (TQFP, 64-Leads, Body 10x10mm, Pitch 0.5mm, IPC Medium Density)
footprint MCHP-TQFP-PT64_L (TQFP, 64-Leads, Body 10x10mm, Pitch 0.5mm, IPC High Density)
footprint MCHP-TQFP-PT64_M (TQFP, 64-Leads, Body 10x10mm, Pitch 0.5mm, IPC Low Density)
part A pins: 1 RA4/T0CKI (io), 2 RA5/~{SS} (io), 3 RB1 (io) "PORTB is a bi-directional I/O port. PORTB can be software programmed for internal weak pull-ups on all inputs.", 4 RB0/INT (io), 5 RC3/SCK/SCL (io), 6 RC4/SDI/SDA (io), 7 RC5/SDO (io), 14 OSC1/CLKIN (in), 15 OSC2/CLKOUT (out), 16 RC0/T1OSO/T1CKI (io), 17 RC1/T1OSI (io), 18 RC2/CCP1 (io), 21 RD0/SEG00 (io), 22 RD1/SEG01 (io), 23 RD2/SEG02 (io), 24 RD3/SEG03 (io), 25 RD4/SEG04 (io), 26 RE0/SEG05 (io), 27 RE1/SEG06 (io), 28 RE2/SEG07 (io), 29 RE3/SEG08 (io), 30 RE4/SEG09 (io), 31 RE5/SEG10 (io), 32 RE6/SEG11 (io), 33 RF0/SEG12 (io), 34 RF1/SEG13 (io), 35 RF2/SEG14 (io), 36 RF3/SEG15 (io), 37 RF4/SEG16 (io), 38 RF5/SEG17 (io), 39 RF6/SEG18 (io), 40 RF7/SEG19 (io), 41 RG0/SEG20 (io), 42 RG1/SEG21 (io), 43 RG2/SEG22 (io), 44 RG3/SEG23 (io), 45 RG4/SEG24 (io), 46 RG5/SEG25 (io), 47 RG6/SEG26 (io), 48 RD5/SEG29/COM3 (io), 49 RD6/SEG30/COM2 (io), 50 RD7/SEG31/COM1 (io), 51 COM0 (out) "Common Driver0", 53 RB6 (io) "PORTB is a bi-directional I/O port. PORTB can be software programmed for internal weak pull-ups on all inputs. Interrupt on change pin. Serial programming clock. This buffer is a Schmitt Trigger input when used in serial (See Datasheet)", 54 RB7 (io) "PORTB is a bi-directional I/O port. PORTB can be software programmed for internal weak pull-ups on all inputs. Interrupt on change pin. Serial programming data. This buffer is a Schmitt Trigger input when used in serial (See Datasheet)", 55 RB5 (io) "PORTB is a bi-directional I/O port. PORTB can be software programmed for internal weak pull-ups on all inputs. Interrupt on change pin", 56 RB4 (io) "PORTB is a bi-directional I/O port. PORTB can be software programmed for internal weak pull-ups on all inputs. Interrupt on change pin", 57 ~{MCLR}/VPP (in), 58 RB3 (io) "PORTB is a bi-directional I/O port. PORTB can be software programmed for internal weak pull-ups on all inputs.", 59 RB2 (io) "PORTB is a bi-directional I/O port. PORTB can be software programmed for internal weak pull-ups on all inputs.", 60 RA0 (io), 61 RA1 (io), 63 RA2 (io), 64 RA3 (io)
part B pins: 8 C1 (power) "LCD Voltage Generation.", 9 C2 (power) "LCD Voltage Generation.", 10 VLCD2 (power) "LCD Voltage.", 11 VLCD3 (power) "LCD Voltage.", 12 VDD (power) "Digital power", 13 VSS (power) "Ground reference.", 19 VLCD1 (power) "LCD Voltage.", 20 VLCDADJ (power) "LCD Voltage Generation", 52 VDD (power) "Digital power", 62 VSS (power) "Ground reference."

## PIC16LC924-04/L
designator U?
8-Bit CMOS Microcontroller with LCD Driver, 4 MHz, 25 I/O, 0 to 70 degC, 68-pin PLCC (L68), Tube; Manufacturer: Microchip; PartNumber: PIC16LC924-04/L; # of A/D Channels: 5; I/O Pins: 25; Max. CPU Speed MHz: 4; Memory Type: OTP; Operation Voltage Range: 2.5V - 6V; Program Memory KBytes: 7; RAM: 176; Timers: 2 - 8-bit, 1 - 16-bit; DatasheetVersion: Rev. E; PackageVersion: C04-049B, 04/2013; PackageReference: PLCC-L68; PackageDescription: 68-Lead Plastic Leaded Chip Carrier, Body 24.23 x 24.23 mm, Pitch 1.27 mm; Supplier 1: Digi-Key; Supplier Part Number 1: PIC16LC924-04/L-ND; Supplier 2: Mouser; Supplier Part Number 2: 579-PIC16LC924-04/L; Packing: TUBE; Program Memory KWords: 4; Mounting Technology: Surface Mount; ComponentLink1Description: Datasheet; ComponentLink1URL: http://ww1.microchip.com/downloads/en/DeviceDoc/30444e.pdf; ComponentLink2Description: Package Specification; ComponentLink2URL: http://www.microchip.com/stellent/groups/techpub_sg/documents/packagingspec/en012702.pdf; ComponentLink3Description: URL Link1; ComponentLink3URL: Product URL:http://www.microchip.com/datasheet/PIC16C924
footprint MCHP-PLCC-L68_N (PLCC, 68-Leads, Body 24.23x24.23mm, Pitch 1.27mm, IPC Medium Density)
footprint MCHP-PLCC-L68_L (PLCC, 68-Leads, Body 24.23x24.23mm, Pitch 1.27mm, IPC High Density)
footprint MCHP-PLCC-L68_M (PLCC, 68-Leads, Body 24.23x24.23mm, Pitch 1.27mm, IPC Low Density)
part A pins: 1 NC "These pins are not internally connected. These pins should be left unconnected.", 2 ~{MCLR}/VPP (in), 3 RB3 (io) "PORTB is a bi-directional I/O port. PORTB can be software programmed for internal weak pull-ups on all inputs.", 4 RB2 (io) "PORTB is a bi-directional I/O port. PORTB can be software programmed for internal weak pull-ups on all inputs.", 5 RA0/AN0 (io), 6 RA1/AN1 (io), 8 RA2/AN2 (io), 9 RA3/AN3/VREF (io), 10 RA4/T0CKI (io), 11 RA5/AN4/~{SS} (io), 12 RB1 (io) "PORTB is a bi-directional I/O port. PORTB can be software programmed for internal weak pull-ups on all inputs.", 13 RB0/INT (io), 14 RC3/SCK/SCL (io), 15 RC4/SDI/SDA (io), 16 RC5/SDO (io), 24 OSC1/CLKIN (in), 25 OSC2/CLKOUT (out), 26 RC0/T1OSO/T1CKI (io), 27 RC1/T1OSI (io), 28 RC2/CCP1 (io), 31 RD0/SEG00 (io), 32 RD1/SEG01 (io), 33 RD2/SEG02 (io), 34 RD3/SEG03 (io), 35 RD4/SEG04 (io), 36 RE7/SEG27 (io), 37 RE0/SEG05 (io), 38 RE1/SEG06 (io), 39 RE2/SEG07 (io), 40 RE3/SEG08 (io), 41 RE4/SEG09 (io), 42 RE5/SEG10 (io), 43 RE6/SEG11 (io), 44 RF0/SEG12 (io), 45 RF1/SEG13 (io), 46 RF2/SEG14 (io), 47 RF3/SEG15 (io), 48 RF4/SEG16 (io), 49 RF5/SEG17 (io), 50 RF6/SEG18 (io), 51 RF7/SEG19 (io), 52 RG7/SEG28 (io), 53 RG0/SEG20 (io), 54 RG1/SEG21 (io), 55 RG2/SEG22 (io), 56 RG3/SEG23 (io), 57 RG4/SEG24 (io), 58 RG5/SEG25 (io), 59 RG6/SEG26 (io), 60 RD5/SEG29/COM3 (io), 61 RD6/SEG30/COM2 (io), 62 RD7/SEG31/COM1 (io), 63 COM0 (out) "Common Driver0", 65 RB6 (io) "PORTB is a bi-directional I/O port. PORTB can be software programmed for internal weak pull-ups on all inputs. Interrupt on change pin. Serial programming clock. This buffer is a Schmitt Trigger input when used in serial (See Datasheet)", 66 RB7 (io) "PORTB is a bi-directional I/O port. PORTB can be software programmed for internal weak pull-ups on all inputs. Interrupt on change pin. Serial programming data. This buffer is a Schmitt Trigger input when used in serial (See Datasheet)", 67 RB5 (io) "PORTB is a bi-directional I/O port. PORTB can be software programmed for internal weak pull-ups on all inputs. Interrupt on change pin", 68 RB4 (io) "PORTB is a bi-directional I/O port. PORTB can be software programmed for internal weak pull-ups on all inputs. Interrupt on change pin"
part B pins: 7 VSS (power) "Ground reference.", 17 C1 (power) "LCD Voltage Generation.", 18 C2 (power) "LCD Voltage Generation.", 19 VLCD2 (power) "LCD Voltage.", 20 VLCD3 (power) "LCD Voltage.", 21 AVDD (power) "Analog Power (PIC16C924 only).", 22 VDD (power) "Digital power", 23 VSS (power) "Ground reference.", 29 VLCD1 (power) "LCD Voltage.", 30 VLCDADJ (power) "LCD Voltage Generation", 64 VDD (power) "Digital power"

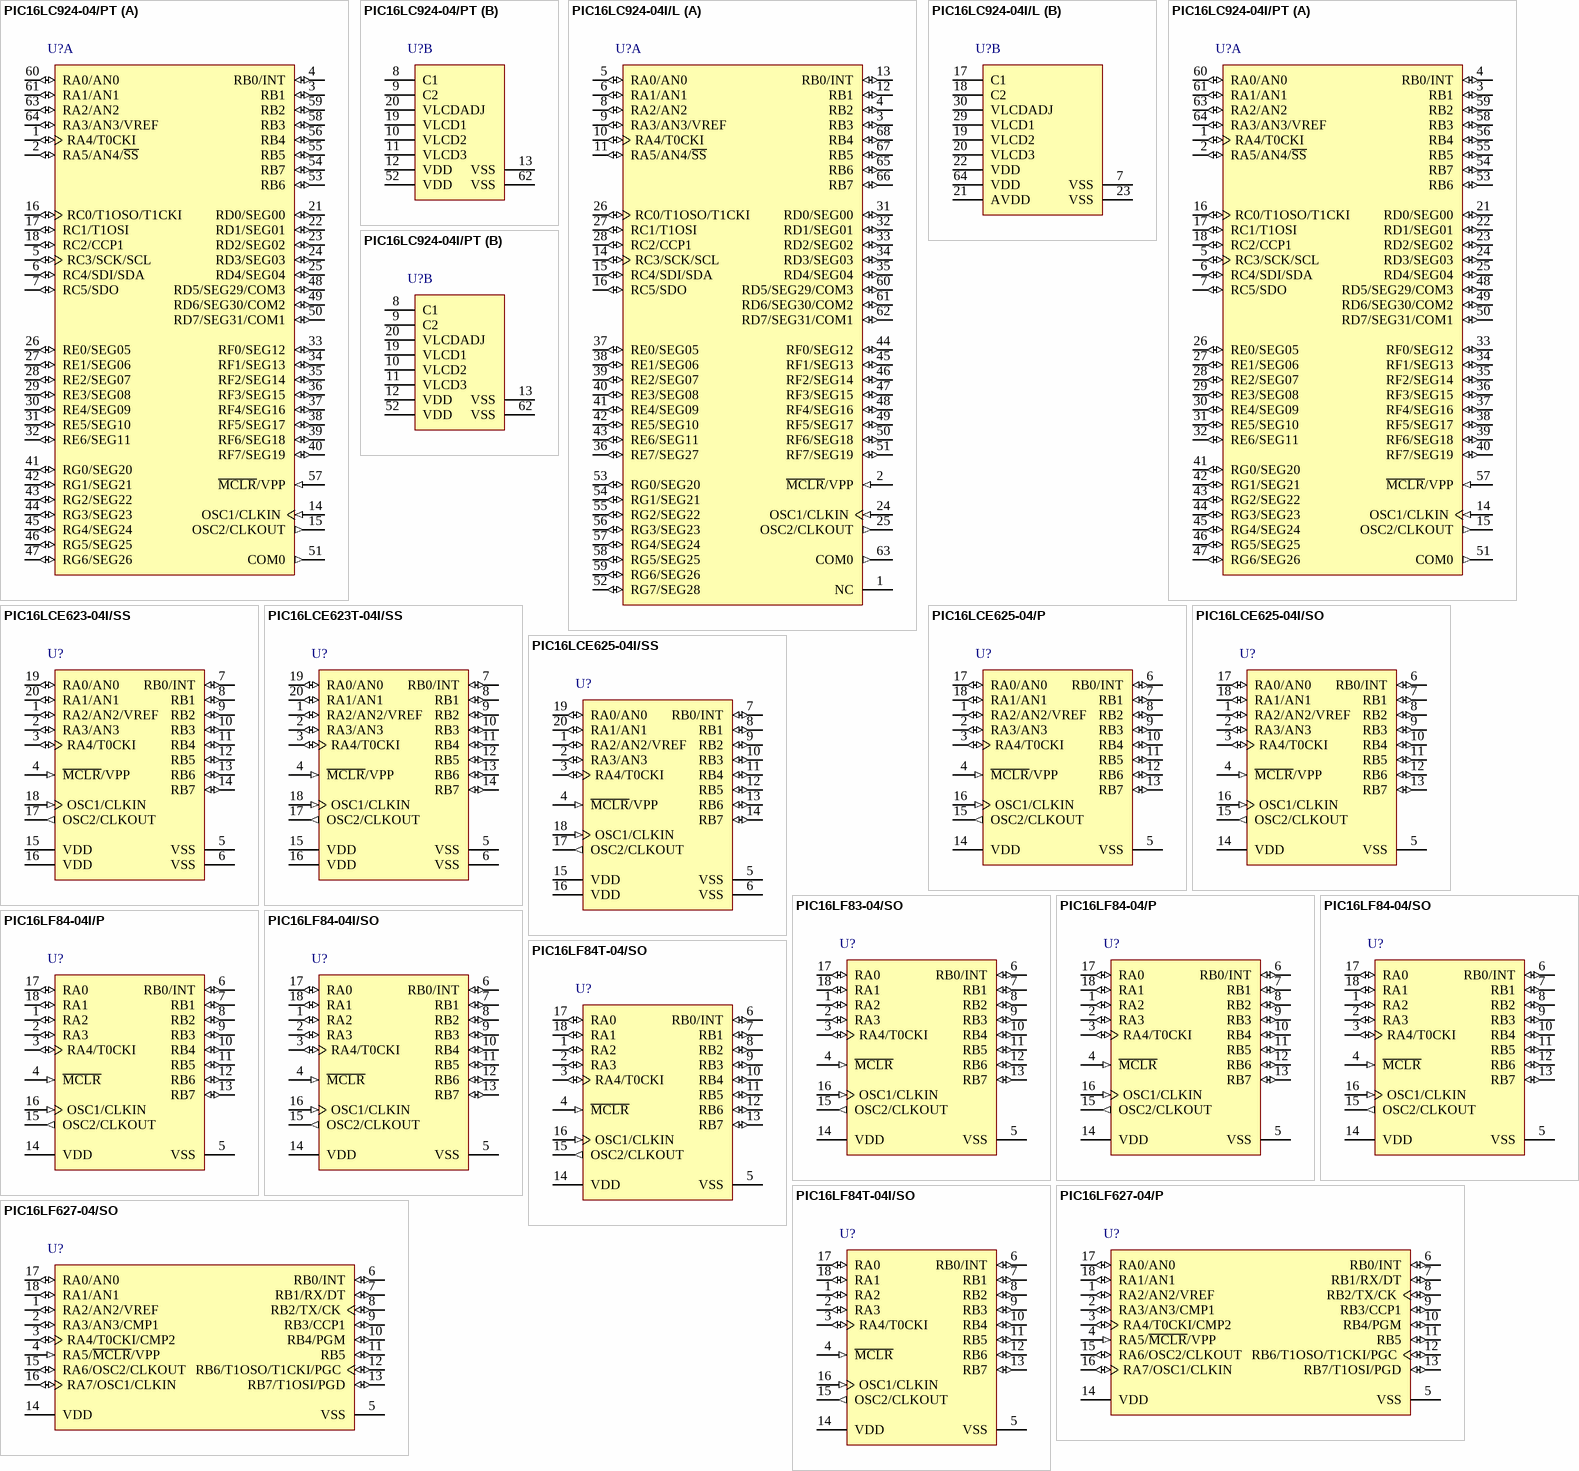
[diagram p74: symbols PIC16LC924-04/PT to PIC16LF627-04/SO]

## PIC16LC924-04/PT
designator U?
8-Bit CMOS Microcontroller with LCD Driver, 4 MHz, 25 I/O, 0 to 70 degC, 64-pin TQFP (PT64), Tray; Manufacturer: Microchip; PartNumber: PIC16LC924-04/PT; # of A/D Channels: 5; I/O Pins: 25; Max. CPU Speed MHz: 4; Memory Type: OTP; Operation Voltage Range: 2.5V - 6V; Program Memory KBytes: 7; RAM: 176; Timers: 2 - 8-bit, 1 - 16-bit; DatasheetVersion: Rev. E; PackageVersion: C04-085B, 12/2012; PackageReference: TQFP-PT64; PackageDescription: 64-Lead Plastic Thin Quad FlatPack, 10 x 10 mm Body, 0.5 mm Pitch; Supplier 1: Digi-Key; Supplier Part Number 1: PIC16LC924-04/PT-ND; Supplier 2: Mouser; Supplier Part Number 2: 579-PIC16LC924-04/PT; Packing: TRAY; Program Memory KWords: 4; Mounting Technology: Surface Mount; ComponentLink1Description: Datasheet; ComponentLink1URL: http://ww1.microchip.com/downloads/en/DeviceDoc/30444e.pdf; ComponentLink2Description: Package Specification; ComponentLink2URL: http://www.microchip.com/stellent/groups/techpub_sg/documents/packagingspec/en012702.pdf; ComponentLink3Description: URL Link1; ComponentLink3URL: Product URL:http://www.microchip.com/datasheet/PIC16C924
footprint MCHP-TQFP-PT64_N (TQFP, 64-Leads, Body 10x10mm, Pitch 0.5mm, IPC Medium Density)
footprint MCHP-TQFP-PT64_L (TQFP, 64-Leads, Body 10x10mm, Pitch 0.5mm, IPC High Density)
footprint MCHP-TQFP-PT64_M (TQFP, 64-Leads, Body 10x10mm, Pitch 0.5mm, IPC Low Density)
part A pins: 1 RA4/T0CKI (io), 2 RA5/AN4/~{SS} (io), 3 RB1 (io) "PORTB is a bi-directional I/O port. PORTB can be software programmed for internal weak pull-ups on all inputs.", 4 RB0/INT (io), 5 RC3/SCK/SCL (io), 6 RC4/SDI/SDA (io), 7 RC5/SDO (io), 14 OSC1/CLKIN (in), 15 OSC2/CLKOUT (out), 16 RC0/T1OSO/T1CKI (io), 17 RC1/T1OSI (io), 18 RC2/CCP1 (io), 21 RD0/SEG00 (io), 22 RD1/SEG01 (io), 23 RD2/SEG02 (io), 24 RD3/SEG03 (io), 25 RD4/SEG04 (io), 26 RE0/SEG05 (io), 27 RE1/SEG06 (io), 28 RE2/SEG07 (io), 29 RE3/SEG08 (io), 30 RE4/SEG09 (io), 31 RE5/SEG10 (io), 32 RE6/SEG11 (io), 33 RF0/SEG12 (io), 34 RF1/SEG13 (io), 35 RF2/SEG14 (io), 36 RF3/SEG15 (io), 37 RF4/SEG16 (io), 38 RF5/SEG17 (io), 39 RF6/SEG18 (io), 40 RF7/SEG19 (io), 41 RG0/SEG20 (io), 42 RG1/SEG21 (io), 43 RG2/SEG22 (io), 44 RG3/SEG23 (io), 45 RG4/SEG24 (io), 46 RG5/SEG25 (io), 47 RG6/SEG26 (io), 48 RD5/SEG29/COM3 (io), 49 RD6/SEG30/COM2 (io), 50 RD7/SEG31/COM1 (io), 51 COM0 (out) "Common Driver0", 53 RB6 (io) "PORTB is a bi-directional I/O port. PORTB can be software programmed for internal weak pull-ups on all inputs. Interrupt on change pin. Serial programming clock. This buffer is a Schmitt Trigger input when used in serial (See Datasheet)", 54 RB7 (io) "PORTB is a bi-directional I/O port. PORTB can be software programmed for internal weak pull-ups on all inputs. Interrupt on change pin. Serial programming data. This buffer is a Schmitt Trigger input when used in serial (See Datasheet)", 55 RB5 (io) "PORTB is a bi-directional I/O port. PORTB can be software programmed for internal weak pull-ups on all inputs. Interrupt on change pin", 56 RB4 (io) "PORTB is a bi-directional I/O port. PORTB can be software programmed for internal weak pull-ups on all inputs. Interrupt on change pin", 57 ~{MCLR}/VPP (in), 58 RB3 (io) "PORTB is a bi-directional I/O port. PORTB can be software programmed for internal weak pull-ups on all inputs.", 59 RB2 (io) "PORTB is a bi-directional I/O port. PORTB can be software programmed for internal weak pull-ups on all inputs.", 60 RA0/AN0 (io), 61 RA1/AN1 (io), 63 RA2/AN2 (io), 64 RA3/AN3/VREF (io)
part B pins: 8 C1 (power) "LCD Voltage Generation.", 9 C2 (power) "LCD Voltage Generation.", 10 VLCD2 (power) "LCD Voltage.", 11 VLCD3 (power) "LCD Voltage.", 12 VDD (power) "Digital power", 13 VSS (power) "Ground reference.", 19 VLCD1 (power) "LCD Voltage.", 20 VLCDADJ (power) "LCD Voltage Generation", 52 VDD (power) "Digital power", 62 VSS (power) "Ground reference."